# EAGLE library part HSCDLND1.6BA2A3 (library general_lib)
Board Mount Pressure Sensors DIP, Dual Rad Barbed Differential, 3.3V Source: Datasheet <https://www.mouser.es/datasheet/2/187/honeywell_sensing_trustability_hsc_series_high_acc-708740.pdf>
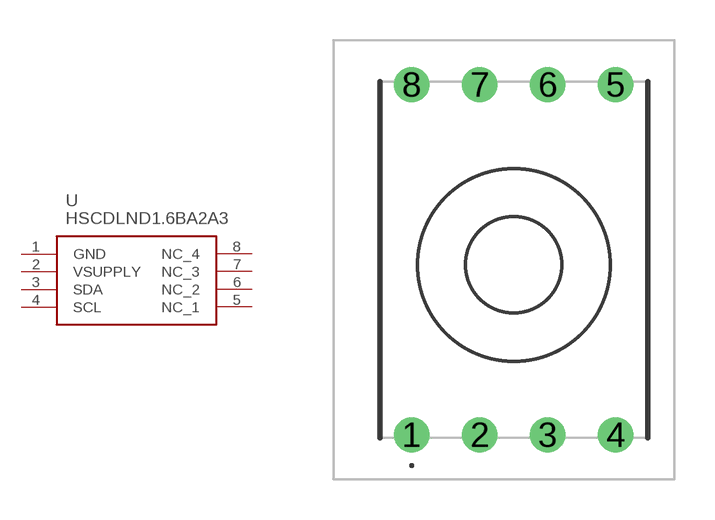
[diagram p3: symbol with the pads of HSCDLND1.6BA2A3; footprint HSCDLND1.6BA2A3]

Designator prefix -

## HSCDLND1.6BA2A3  [HSCDLND1.6BA2A3]
1  GND  sup
2  VSUPPLY  sup
3  SDA
4  SCL
5  NC_1  nc
6  NC_2  nc
7  NC_3  nc
8  NC_4  nc

## Footprint HSCDLND1.6BA2A3 (pad centres in mm)
HSCDLND1.6BA2A3-4
drill 0.813 pad 1.321: 1 0,0; 2 2.54,0; 3 5.08,0; 4 7.62,0; 5 7.62,13.08; 6 5.08,13.08; 7 2.54,13.08; 8 0,13.08